# Altium schematic symbol library SCH - POWER - LINEAR VREG - TI REG1117A_KTT_3.SchLib: 1 symbol
Pins are listed as number, name and electrical type; pins without a type are passive.

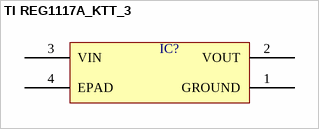
[diagram p0: symbol TI REG1117A_KTT_3]

## TI REG1117A_KTT_3
designator IC?  (value not drawn)
pins: 1 GROUND, 2 VOUT, 3 VIN, 4 EPAD